# Altium schematic symbol library WS-SLTU.SchLib: 1 symbol
Pins are listed as number, name and electrical type; pins without a type are passive.

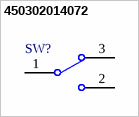
[diagram p0: symbol 450302014072]

## 450302014072
designator SW?  (value not drawn)
WS-SLTU THT Mini Slide Switch, Opposite Side Connection Right Angled 10x2.5 mm, 800g, SPDT; Manufacturer: Wurth Elektronik; Manufacturer Part Number: 450302014072; Category: Slide Switch; Match Code: WS-SLTU; ComponentLink1Description: Website Link; ComponentLink1URL: https://www.we-online.com; ComponentLink2Description: Datasheet Link; ComponentLink2URL: https://www.we-online.com/components/products/datasheet/450302014072; Mount: Through Hole; Operating Temperature Min: -40degC; Operating Temperature Max: 85degC; Packaging: Bulk; Length: 10mm; Width: 6.8mm; Height: 2.5mm; Operation Force: 800g; Schematic: SPDT
footprint 450302014072
pins: 1 COM, 2, 3